# Altium schematic symbol library Sheye-Radiator.SchLib: 9 symbols
Pins are listed as number, name and electrical type; pins without a type are passive.

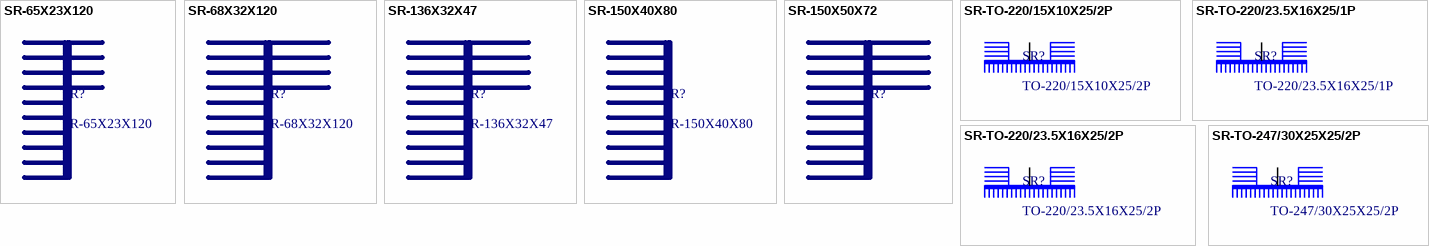
[diagram p0: symbols SR-65X23X120 to SR-TO-247/30X25X25/2P]

## SR-65X23X120
designator SR?
型材散热器; 规格型号: 65X23; 备注: *; 供应商: 天津鑫铝; 生产商: *
footprint SR-65X23X120
footprint SR-65X23X120

## SR-68X32X120
designator SR?
型材散热器; 规格型号: 68X32; 备注: *; 供应商: 天津鑫铝; 生产商: *
footprint SR-68X32X120

## SR-136X32X47
designator SR?
型材散热器; 规格型号: FBO4.815.031-环; 备注: *; 供应商: *; 生产商: *
footprint SR-136X32X47

## SR-150X40X80
designator SR?
型材散热器; 生产商: 成都西河; 规格型号: 成都西河XHX149  长150mm; 备注: *; 供应商: *
footprint SR-150X40X80

## SR-150X50X72
designator SR?, comment IDCE2206CT-301(TCD-939)  (value not drawn)
型材散热器; 货品编码: 103015; 备注: *; 供应商: *; 生产商: *; 规格型号: idce2206ct-301
footprint SR-150X50X72
footprint SR-150X50X72

## SR-TO-220/15X10X25/2P
designator SR?, comment TO-220/15X10X25/2P
电子散热器TO-220; 备注: *; 供应商: *; 生产商: *; 规格型号: *
footprint SR-TO-220/15X10X25/2P (Footprint not found)
pins: 1

## SR-TO-220/23.5X16X25/1P
designator SR?, comment TO-220/23.5X16X25/1P
电子散热器TO-220; 备注: *; 供应商: *; 生产商: *; 规格型号: *
footprint SR-TO-220/23.5X16X25/1P
pins: 1

## SR-TO-220/23.5X16X25/2P
designator SR?, comment TO-220/23.5X16X25/2P
电子散热器TO-220; 备注: *; 供应商: *; 生产商: *; 规格型号: *
footprint SR-TO-220/23.5X16X25/2P
pins: 1

## SR-TO-247/30X25X25/2P
designator SR?, comment TO-247/30X25X25/2P
电子散热器TO-247; 备注: *; 供应商: *; 生产商: *; 规格型号: *
footprint SR-TO-247/30X25X25/2P (MOS-TO-247-L)
pins: 1